# Altium schematic symbol library 632723100011.SchLib: 1 symbol
Pins are listed as number, name and electrical type; pins without a type are passive.

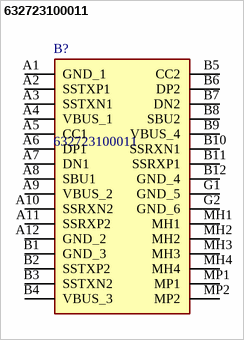
[diagram p0: symbol 632723100011]

## 632723100011
designator B?
WURTH ELEKTRONIK - 632723100011 - USB Connector, USB Type C, USB 3.1, Receptacle, 24 Ways, Surface Mount, Through Hole Mount; Geometry.Height: 3.11mm; Mouser Part Number: 710-632723100011; Mouser Price/Stock: https://www.mouser.co.uk/ProductDetail/Wurth-Elektronik/632723100011?qs=NK6InXoXhq4o62C9ULXLjQ%3D%3D; Manufacturer_Name: Wurth Elektronik; Manufacturer_Part_Number: 632723100011; Datasheet Link: https://componentsearchengine.com/Datasheets/1/632723100011.pdf
footprint 632723100011
pins: A1 GND_1, A2 SSTXP1, A3 SSTXN1, A4 VBUS_1, A5 CC1, A6 DP1, A7 DN1, A8 SBU1, A9 VBUS_2, A10 SSRXN2, A11 SSRXP2, A12 GND_2, B1 GND_3, B2 SSTXP2, B3 SSTXN2, B4 VBUS_3, B5 CC2, B6 DP2, B7 DN2, B8 SBU2, B9 VBUS_4, B10 SSRXN1, B11 SSRXP1, B12 GND_4, G1 GND_5, G2 GND_6, MH1, MH2, MH3, MH4, MP1, MP2